# Altium schematic symbol library AP63205WU-7.SchLib: 1 symbol
Pins are listed as number, name and electrical type; pins without a type are passive.

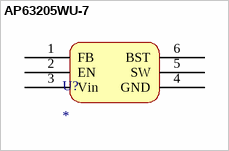
[diagram p0: symbol AP63205WU-7]

## AP63205WU-7
designator U?
footprint AP63205WU-7
pins: 1 FB, 2 EN, 3 Vin, 4 GND, 5 SW, 6 BST